# EAGLE library part STLZ_1550/6GV (library con-ptr-stlz1550)
HEADER
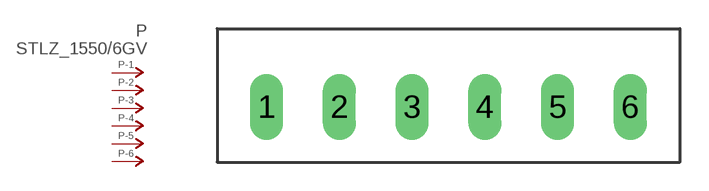
[diagram p0: symbol with the pads of PAC-06; footprint PAC-06]

Designator prefix P; gates -1=P-NV -2=P-N -3=P-N -4=P-N -5=P-N -6=P-N

## STLZ_1550/6GV  [PAC-06]
1  -1:P  pas
2  -2:P  pas
3  -3:P  pas
4  -4:P  pas
5  -5:P  pas
6  -6:P  pas

## Footprint PAC-06 (pad centres in mm)
HEADER
drill 1.15 long: 1 -9.525,0; 2 -5.715,0; 3 -1.905,0; 4 1.905,0; 5 5.715,0; 6 9.525,0